# EAGLE library part SNP-40-10V (library _mtvl.con.soviet)
SNP-40-10V connector
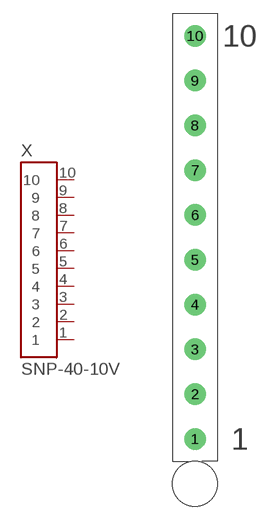
[diagram p0: symbol with the pads of SNP-40-10V; footprint SNP-40-10V]

Designator prefix X

## SNP-40-10V  [SNP-40-10V]
1  1
2  2
3  3
4  4
5  5
6  6
7  7
8  8
9  9
10  10

## Footprint SNP-40-10V (pad centres in mm)
SNP-40-10V connector
drill 1.6: 1 0,-22.5; 2 0,-17.5; 3 0,-12.5; 4 0,-7.5; 5 0,-2.5; 6 0,2.5; 7 0,7.5; 8 0,12.5; 9 0,17.5; 10 0,22.5
hole 5 at 0,-27.5